# Altium schematic symbol library CAP POL 1000uF RADIAL SMD.Schlib: 1 symbol
Pins are listed as number, name and electrical type; pins without a type are passive.

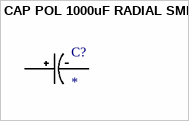
[diagram p0: symbol CAP POL 1000uF RADIAL SMD]

## CAP POL 1000uF RADIAL SMD
designator C?
1000µF 25V Aluminum Electrolytic Capacitors Radial, Can - SMD 5000 Hrs @ 105Â°C; MF: Panasonic; MP: EEV-FK1E102Q; Package: Radial Panasonic; Value: *; Price: None; SnapEDA_Link: https://www.snapeda.com/parts/EEV-FK1E102Q/Panasonic%20Electronic%20Components/view-part/492355/?ref=snap; ComponentLink1Description: Digi-Key; ComponentLink1URL: https://www.digikey.ca/en/products/detail/panasonic-electronic-components/EEV-FK1E102Q/396274?s=N4IgTCBcDaIKJwGoFoBiBpAjHTAGMAiiALoC%2BQA; ComponentLink2Description: ciiva; ComponentLink2URL: https://ciiva.com/part/250usg1000mefcsn25x45-4128165
footprint Radial, Can - SMD
pins: NEG, POS